# Altium footprint library PCB11.PcbLib: 38 footprints (part 2 of 3)
Each footprint in its own frame and in the unit in brackets; x right, y up, seen from the top. Pads: shape width x height; smd on the part's side, far side on the other; paste and mask are expansions set on the pad; w line width, h text height; cw(c..) or ccw(c..) is an arc to the next point about the centre after c.
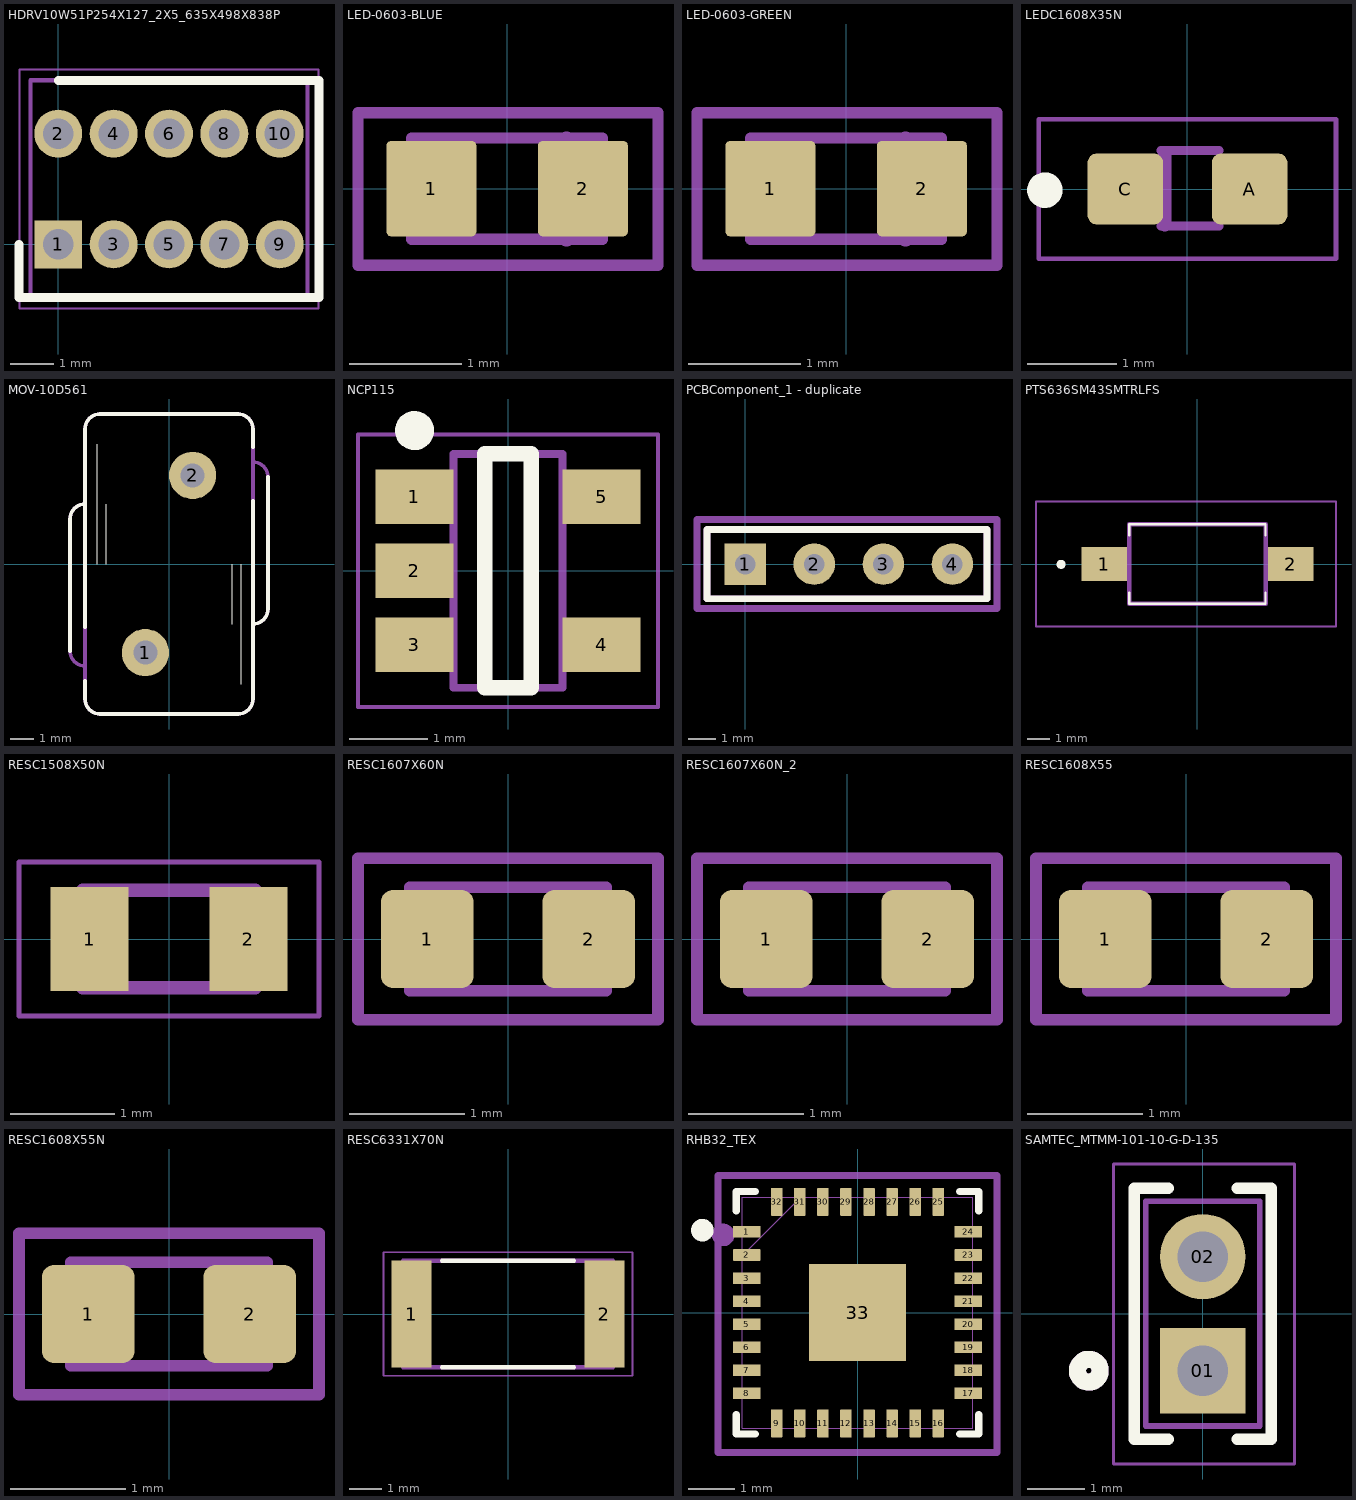
[diagram p1: the footprints below, top view; thin cyan lines are the x and y axes]

## HDRV10W51P254X127_2X5_635X498X838P [mm]
height 2.54
pads (10):
  rect 1.1x1.1 hole 0.7 mask+0.076: 1(0,0)
  round 1.1 hole 0.7 mask+0.076: 2(0,2.54) 3(1.27,0) 4(1.27,2.54) 5(2.54,0) 6(2.54,2.54) 7(3.81,0) 8(3.81,2.54) 9(5.08,0) 10(5.08,2.54)
Top Overlay:
  lines w0.2: -0.9,0 -0.9,-1.22 5.98,-1.22 5.98,3.76 0,3.76
Top Component Outline:
  lines w0.1: -0.635,-1.22 5.715,-1.22 5.715,3.76 -0.635,3.76 -0.635,-1.22
Top Courtyard (Mech15):
  lines w0.05: -0.885,-1.47 5.965,-1.47 5.965,4.01 -0.885,4.01 -0.885,-1.47
Top Designator (Mech17):
  text ".Designator" at -0.828,4.428 h1.52
3D body "TMS-105-01-L-D.stp": height 8.38, standoff -3.05, extent -0.635,-1.22 5.715,3.76

## LED-0603-BLUE [mm]
pads (2):
  rrect10% 0.8x0.85 smd: 1(-0.675,0) 2(0.675,0)
Top Component Outline:
  lines w0.1: -0.85,-0.45 0.85,-0.45 0.85,0.45 -0.85,0.45 -0.85,-0.45
  lines w0.152: 0.529,-0.438 0.529,0.431
Top Courtyard (Mech15):
  lines w0.1: -1.329,-0.682 1.343,-0.682 1.343,0.676 -1.329,0.676 -1.329,-0.682
Top Designator (Mech17):
  text ".Designator" at -3.23,1.058 h1.52
3D body "User Library-LED_0603_B.STEP": height 0.6, standoff 0, extent -0.927,-0.4 0.673,0.4

## LED-0603-GREEN [mm]
height 0.5
pads (2):
  rrect10% 0.8x0.85 smd: 1(-0.675,0) 2(0.675,0)
Top Component Outline:
  lines w0.1: -0.85,-0.45 -0.85,0.45 0.85,0.45 0.85,-0.45 -0.85,-0.45
  lines w0.152: 0.529,-0.438 0.529,0.431
Top Courtyard (Mech15):
  lines w0.1: -1.329,-0.682 -1.329,0.676 1.343,0.676 1.343,-0.682 -1.329,-0.682
Top Designator (Mech17):
  text ".Designator" at -3.23,1.058 h1.52
3D body "User Library-LED_0603_B.STEP": height 0.6, standoff 0, extent -0.927,-0.4 0.673,0.4

## LEDC1608X35N [mm]
height 0.45
pads (2):
  rrect25% 0.85x0.8 smd mask+0.076: A(0.7,0) C(-0.7,0)
Top Overlay:
  circle w0.2: c-1.606,-0.013 r0.1
Top Component Outline:
  lines w0.102: -0.3,-0.419 0.356,-0.419 ; -0.3,0.432 0.356,0.432
  lines w0.152: -0.256,-0.4 -0.256,0.4
Top Courtyard (Mech15):
  lines w0.051: -1.673,-0.783 1.673,-0.783 1.673,0.783 -1.673,0.783 -1.673,-0.783
Top Designator (Mech17):
  text ".Designator" at -3.434,1.207 h1.52
3D body "step_temp.STEP": height 0.8, standoff 0, extent -0.8,-0.4 0.8,0.4

## MOV-10D561 [mm]
height 15.5
pads (2):
  round 2 hole 1.016 mask+0.076: 1(-1,-3.75) 2(1,3.75)
Top Overlay:
  lines w0.051: -3.048,0 -3.048,5.08 ; -2.667,0 -2.667,2.54 ; 2.667,-2.54 2.667,0 ; 3.048,-5.08 3.048,0
  lines w0.152: -4.191,-3.683 -4.191,1.905 cw(c-3.556,1.905) -3.556,2.54 ; -3.556,-4.953 -3.556,-5.715 ccw(c-2.921,-5.715) -2.921,-6.35 2.921,-6.35 ccw(c2.921,-5.715) 3.556,-5.715 3.556,2.667 ; -3.556,-2.667 -3.556,5.715 cw(c-2.921,5.715) -2.921,6.35 2.921,6.35 cw(c2.921,5.715) 3.556,5.715 3.556,4.953 ; 3.556,-2.54 ccw(c3.556,-1.905) 4.191,-1.905 4.191,3.683
Top Component Outline:
  lines w0.152: -3.556,-4.318 cw(c-3.556,-3.683) -4.191,-3.683 -4.191,1.905 cw(c-3.556,1.905) -3.556,2.54 ; 3.556,-2.54 ccw(c3.556,-1.905) 4.191,-1.905 4.191,3.683 ccw(c3.556,3.683) 3.556,4.318 ; -3.556,-5.715 ccw(c-2.921,-5.715) -2.921,-6.35 2.921,-6.35 ccw(c2.921,-5.715) 3.556,-5.715 3.556,2.667 3.556,4.953 3.556,5.715 ccw(c2.921,5.715) 2.921,6.35 -2.921,6.35 ccw(c-2.921,5.715) -3.556,5.715 -3.556,-2.667 -3.556,-4.953 -3.556,-5.715
Top Designator (Mech17):
  text ".Designator" at -3.523,6.932 h1.52
3D body "step_temp.STEP": height 15.5, standoff -17, extent -2,-6.25 2,6.25

## NCP115 [mm]
height 1.1
pads (5):
  rect 1x0.7 smd: 1(-1.2,0.95) 2(-1.2,0) 3(-1.2,-0.95) 4(1.2,-0.95) 5(1.2,0.95)
Top Overlay:
  circle w0.25: c-1.2,1.8 r0.125
  lines w0.2: -0.3,-1.5 0.3,-1.5 0.3,1.5 -0.3,1.5 -0.3,-1.5
Top Component Outline:
  lines w0.1: -0.7,-1.5 -0.7,1.5 0.7,1.5 0.7,-1.5 -0.7,-1.5
Top Courtyard (Mech15):
  lines w0.05: -1.925,-1.75 -1.925,1.75 1.925,1.75 1.925,-1.75 -1.925,-1.75
Top Designator (Mech17):
  text ".Designator" at -3.489,2.605 h1.52
3D body: height 1.1, standoff 0.05, extent -0.7,-1.5 0.7,1.5

## PCBComponent_1 - duplicate [mil]
pads (4):
  rect 60x60 hole 30: 1(0,0)
  round 60 hole 30: 2(100,0) 3(200,0) 4(300,0)
Top Overlay:
  lines w10: -55,-50 -55,50 350,50 350,-50 -55,-50
Top Component Outline:
  lines w10: -55,-50 -55,50 350,50 350,-50 -55,-50
Top Courtyard (Mech15):
  lines w10: -69.71,-64.2 -69.71,64.75 364.59,64.75 364.59,-64.2 -69.71,-64.2
Top Designator (Mech17):
  text ".Designator" at -69.79,88.35 h60

## PTS636SM43SMTRLFS [mm]
height 4.3
pads (2):
  rect 2x1.5 smd: 1(-4.1,0) 2(4.1,0)
Top Overlay:
  lines w0.1: -3,-1.75 3,-1.75 ; -3,-1.75 3,-1.75 ; -3,-1.75 -3,-1.25 -3,-1.75 ; -3,1.75 3,1.75 ; -3,1.75 3,1.75 ; -3,1.75 -3,1.25 -3,1.75 ; 3,-1.75 3,-1.25 3,-1.75 ; 3,1.75 3,1.25 3,1.75
  lines w0.2: -6.096,-0.016 ccw(c-5.996,-0.016) -5.896,-0.016 ; -6.096,-0.016 cw(c-5.996,-0.016) -5.896,-0.016 ; -6.096,-0.016 ccw(c-5.996,-0.016) -5.896,-0.016
Top Component Outline:
  lines w0.2: -3,-1.75 -3,1.75 3,1.75 3,-1.75 -3,-1.75
Top Courtyard (Mech15):
  lines w0.1: -7.1,-2.75 -7.1,2.75 6.1,2.75 6.1,-2.75 -7.1,-2.75
Top Designator (Mech17):
  text ".Designator" at -3.865,3.624 h1.52
3D body "PTS636_SM43_SMTR_LFS.stp": height 4.3, standoff 0, extent -3.55,-1.75 3.55,1.75

## RESC1508X50N [mm]
height 0.5
pads (2):
  rect 0.75x1 smd: 1(-0.765,0) 2(0.765,0)
Top Component Outline:
  lines w0.127: -0.83,-0.47 0.83,-0.47 0.83,0.47 -0.83,0.47 -0.83,-0.47
Top Courtyard (Mech15):
  lines w0.05: -1.444,-0.74 1.444,-0.74 1.444,0.74 -1.444,0.74 -1.444,-0.74
Top Designator (Mech17):
  text ".Designator" at -3.522,1.327 h1.52
3D body "step_temp.STEP": height 0.5, standoff 0, extent -0.775,-0.425 0.775,0.425

## RESC1607X60N [mm]
height 0.9
pads (2):
  rrect25% 0.8x0.85 smd mask+0.076: 1(-0.7,0) 2(0.7,0)
Top Component Outline:
  lines w0.1: -0.85,-0.45 0.85,-0.45 0.85,0.45 -0.85,0.45 -0.85,-0.45
Top Courtyard (Mech15):
  lines w0.1: -1.3,-0.7 1.3,-0.7 1.3,0.7 -1.3,0.7 -1.3,-0.7
Top Designator (Mech17):
  text ".Designator" at -3.627,1.19 h1.52
3D body "User Library-SMD CAPACITOR.SLDPRT": height 0.78, standoff -0.02, extent -0.8,-0.4 0.8,0.4

## RESC1607X60N_2 [mm]
height 0.9
pads (2):
  rrect25% 0.8x0.85 smd mask+0.076: 1(-0.7,0) 2(0.7,0)
Top Component Outline:
  lines w0.1: -0.85,-0.45 -0.85,0.45 0.85,0.45 0.85,-0.45 -0.85,-0.45
Top Courtyard (Mech15):
  lines w0.1: -1.3,-0.7 -1.3,0.7 1.3,0.7 1.3,-0.7 -1.3,-0.7
Top Designator (Mech17):
  text ".Designator" at -3.627,1.19 h1.52
3D body "User Library-SMD CAPACITOR.SLDPRT": height 0.78, standoff -0.02, extent -0.8,-0.4 0.8,0.4

## RESC1608X55 [mm]
height 0.55
pads (2):
  rrect25% 0.8x0.85 smd mask+0.076: 1(-0.7,0) 2(0.7,0)
Top Component Outline:
  lines w0.1: -0.85,-0.45 -0.85,0.45 0.85,0.45 0.85,-0.45 -0.85,-0.45
Top Courtyard (Mech15):
  lines w0.1: -1.3,-0.7 -1.3,0.7 1.3,0.7 1.3,-0.7 -1.3,-0.7
Top Designator (Mech17):
  text ".Designator" at -3.627,1.19 h1.52
3D body "User Library-SMD CAPACITOR.SLDPRT": height 0.78, standoff -0.02, extent -0.8,-0.4 0.8,0.4

## RESC1608X55N [mm]
height 0.9
pads (2):
  rrect25% 0.8x0.85 smd mask+0.076: 1(-0.7,0) 2(0.7,0)
Top Component Outline:
  lines w0.1: -0.85,-0.45 -0.85,0.45 0.85,0.45 0.85,-0.45 -0.85,-0.45
Top Courtyard (Mech15):
  lines w0.1: -1.3,-0.7 -1.3,0.7 1.3,0.7 1.3,-0.7 -1.3,-0.7
Top Designator (Mech17):
  text ".Designator" at -3.627,1.19 h1.52
3D body "User Library-SMD CAPACITOR.SLDPRT": height 0.78, standoff -0.02, extent -0.8,-0.4 0.8,0.4

## RESC6331X70N [mm]
pads (2):
  rect 1.24x3.32 smd: 1(-2.99,0) 2(2.99,0)
Top Overlay:
  lines w0.127: -2.05,-1.65 2.05,-1.65 ; -2.05,1.65 2.05,1.65
Top Component Outline:
  lines w0.127: -3.25,-1.65 -3.25,1.65 3.25,1.65 3.25,-1.65 -3.25,-1.65
Top Courtyard (Mech15):
  lines w0.05: -3.858,-1.91 -3.858,1.91 3.858,1.91 3.858,-1.91 -3.858,-1.91
Top Designator (Mech17):
  text ".Designator" at -3.605,2.398 h1.52
3D body "step_temp.STEP": height 0.7, standoff 0, extent -3.15,-1.575 3.15,1.575

## RHB32_TEX [mm]
height 1
pads (33):
  rrect10% 0.6x0.25 smd paste-2.1 mask+0.076: 1(-2.4,1.75) 2(-2.4,1.25) 3(-2.4,0.75) 4(-2.4,0.25) 5(-2.4,-0.25) 6(-2.4,-0.75) 7(-2.4,-1.25) 8(-2.4,-1.75) 17(2.4,-1.75) 18(2.4,-1.25) 19(2.4,-0.75) 20(2.4,-0.25) 21(2.4,0.25) 22(2.4,0.75) 23(2.4,1.25) 24(2.4,1.75)
  rrect10% 0.25x0.6 smd paste-2.1 mask+0.076: 9(-1.75,-2.4) 10(-1.25,-2.4) 11(-0.75,-2.4) 12(-0.25,-2.4) 13(0.25,-2.4) 14(0.75,-2.4) 15(1.25,-2.4) 16(1.75,-2.4) 25(1.75,2.4) 26(1.25,2.4) 27(0.75,2.4) 28(0.25,2.4) 29(-0.25,2.4) 30(-0.75,2.4) 31(-1.25,2.4) 32(-1.75,2.4)
  rect 2.1x2.1 smd paste-2.1 mask+0.076: 33(0,0)
Top Overlay:
  circle w0.254: c-3.361,1.787 r0.117
  lines w0.152: -2.627,-2.208 -2.627,-2.627 -2.208,-2.627 ; -2.627,2.208 -2.627,2.627 -2.208,2.627 ; 2.208,-2.627 2.627,-2.627 2.627,-2.208 ; 2.208,2.627 2.627,2.627 2.627,2.208
Top Paste:
  region: 1.04,-0.1 0.1,-0.1 0.1,-1.04 1.04,-1.04
  region: 1.04,1.04 0.1,1.04 0.1,0.1 1.04,0.1
  region: -0.1,-0.1 -1.04,-0.1 -1.04,-1.04 -0.1,-1.04
  region: -0.1,1.04 -1.04,1.04 -1.04,0.1 -0.1,0.1
Top Component Outline:
  circle w0.254: c-2.909,1.684 r0.117
  lines w0.025: -2.5,1.23 -1.23,2.5 ; -2.5,-2.5 -2.5,2.5 2.5,2.5 2.5,-2.5 -2.5,-2.5
Top Courtyard (Mech15):
  lines w0.152: -3.025,-3.03 3.022,-3.03 3.022,2.973 -3.025,2.973 -3.025,-3.03
Top Designator (Mech17):
  text ".Designator" at -3.655,3.303 h1.52
3D body "RHB0032M.stp": height 1, standoff 0, extent -2.5,-2.5 2.5,2.5

## SAMTEC_MTMM-101-10-G-D-135 [mm]
height 1.5
pads (2):
  rect 1.5x1.5 hole 0.89: 01(0,-1)
  round 1.5 hole 0.89: 02(0,1)
Top Overlay:
  circle w0.3: c-2,-1 r0.2
  lines w0.2: -0.605,-2.2 -1.2,-2.2 -1.2,2.2 -0.605,2.2 ; 0.605,-2.2 1.2,-2.2 1.2,2.2 0.605,2.2
Top Component Outline:
  circle w0.3: c-2,-1 r0.2
  lines w0.1: -1,-1.97 -1,1.97 1,1.97 1,-1.97 -1,-1.97
Top Courtyard (Mech15):
  lines w0.05: -1.568,-2.637 -1.568,2.626 1.611,2.626 1.611,-2.637 -1.568,-2.637
Top Designator (Mech17):
  text ".Designator" at -3.425,2.955 h1.52